# Altium footprint library SamacSys.PcbLib: 3 footprints
Each footprint in its own frame and in the unit in brackets; x right, y up, seen from the top. Pads: shape width x height; smd on the part's side, far side on the other; paste and mask are expansions set on the pad; w line width, h text height; cw(c..) or ccw(c..) is an arc to the next point about the centre after c.
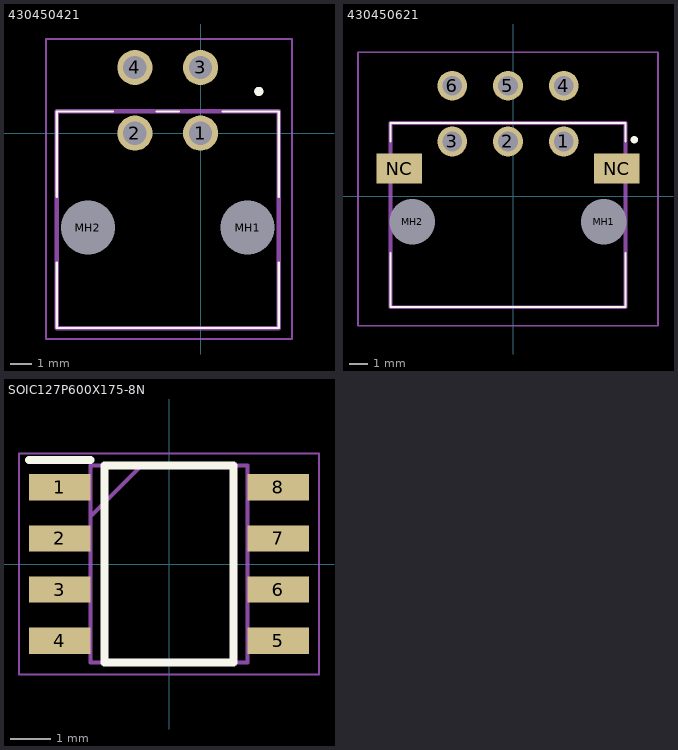
[diagram p0: the footprints below, top view; thin cyan lines are the x and y axes]

## 430450421 [mm]
pads (6):
  round 1.605 hole 1.07: 1(0,0) 2(-3,0) 3(0,3) 4(-3,3)
  round 1.23 hole 2.46 unplated: MH1(2.15,-4.32) MH2(-5.15,-4.32)
Top Overlay:
  circle w0.2: c2.667,1.905 r0.113
  lines w0.1: -6.575,-5.92 -6.575,-8.92 3.575,-8.92 3.575,-5.92 ; -6.575,-2.92 -6.575,0.99 -4,0.99 ; -2,0.99 -1,0.99 ; 1,0.99 3.575,0.99 3.575,-2.92
Mechanical 13:
  lines w0.2: -6.575,-8.92 3.575,-8.92 3.575,0.99 -6.575,0.99 -6.575,-8.92
Mechanical 15:
  lines w0.1: -7.075,-9.42 4.191,-9.42 4.191,4.303 -7.075,4.303 -7.075,-9.42
3D body "43045-0421.stp": height 8.83, standoff -3.12, extent -6.624,-8.938 3.576,3.302

## 430450621 [mm]
pads (10):
  round 1.605 hole 1.07: 1(2.715,2.96) 2(-0.285,2.96) 3(-3.285,2.96) 4(2.715,5.96) 5(-0.285,5.96) 6(-3.285,5.96)
  round 1.23 hole 2.46 unplated: MH1(4.865,-1.36) MH2(-5.435,-1.36)
  rect 2.45x1.6 smd: NC(-6.135,1.5) NC(5.565,1.5)
Top Overlay:
  lines w0.1: -6.61,-3.05 -6.61,-5.96 6.04,-5.96 6.04,-3.05 ; -6.61,2.96 -6.61,3.95 6.04,3.95 6.04,2.96
  lines w0.2: 6.515,2.96 cw(c6.515,3.055) 6.515,3.15 cw(c6.515,3.055) 6.515,2.96
Mechanical 13:
  lines w0.2: -6.61,-5.96 -6.61,3.95 6.04,3.95 6.04,-5.96 -6.61,-5.96
Mechanical 15:
  lines w0.1: -8.36,-6.96 -8.36,7.763 7.79,7.763 7.79,-6.96 -8.36,-6.96
3D body "43045-0621.stp": height 8.83, standoff -3.11, extent -6.86,-5.966 6.29,6.274

## SOIC127P600X175-8N [mm]
pads (8):
  rect 1.525x0.65 smd: 1(-2.712,1.905) 2(-2.712,0.635) 3(-2.712,-0.635) 4(-2.712,-1.905) 5(2.712,-1.905) 6(2.712,-0.635) 7(2.712,0.635) 8(2.712,1.905)
Top Overlay:
  lines w0.2: -3.475,2.58 -1.95,2.58 ; -1.6,-2.45 1.6,-2.45 1.6,2.45 -1.6,2.45 -1.6,-2.45
Mechanical 13:
  lines w0.1: -1.95,1.18 -0.68,2.45 ; -1.95,-2.45 1.95,-2.45 1.95,2.45 -1.95,2.45 -1.95,-2.45
Mechanical 15:
  lines w0.05: -3.725,-2.75 3.725,-2.75 3.725,2.75 -3.725,2.75 -3.725,-2.75
3D body "NE555DR.stp": height 1.75, standoff 0, extent -3,-2.45 3,2.45